# EAGLE library part PCA9533DP_02,118 (library PCA9533DP_02_118)
NXP PCA9533DP/02,118, LED Display Controller 4-Segments, 2.5 V, 3.3 V, 5 V, 8-Pin TSSOP Source: Datasheet <http://www.nxp.com/docs/en/data-sheet/PCA9533.pdf>
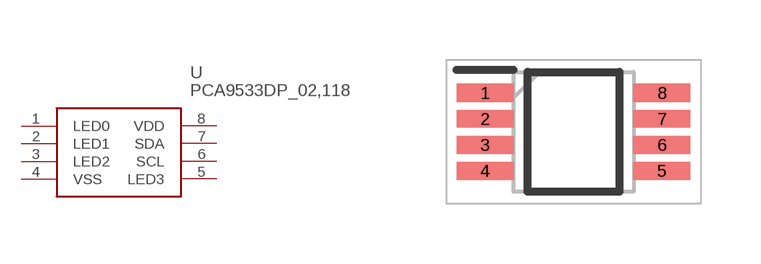
[diagram p0: symbol with the pads of SOP65P490X110-8N; footprint SOP65P490X110-8N]

Designator prefix U

## PCA9533DP_02,118 (Description: NXP PCA9533DP/02,118, LED Display Controller 4-Segments, 2.5 V, 3.3 V, 5 V, 8-Pin TSSOP; Height: 1.1mm; Manufacturer_Name: NXP; Manufacturer_Part_Number: PCA9533DP/02,118; Mouser_Part_Number: 771-PCA9533DP/02118; Mouser_Price-Stock: https://www.mouser.co.uk/ProductDetail/NXP-Semiconductors/PCA9533DP-02118?qs=18PanXkg8EfFFpXHjEHjJg%3D%3D)  [SOP65P490X110-8N]
1  LED0  out
2  LED1  out
3  LED2  out
4  VSS  pwr
5  LED3  out
6  SCL
7  SDA
8  VDD  pwr

## Footprint SOP65P490X110-8N (pad centres in mm)
TSSOP8
smd 1.425 x 0.45: 1 -2.212,0.975; 2 -2.212,0.325; 3 -2.212,-0.325; 4 -2.212,-0.975; 5 2.212,-0.975; 6 2.212,-0.325; 7 2.212,0.325; 8 2.212,0.975